# EAGLE library part USB-MINIB (library Pinoccio)
Mini-USB "B" connector with 5th pin broken out. Created new symbol breaking out 5th "ID" pin in mini/micro USB connector spec. See: http://en.wikipedia.org/wiki/Mini_usb#Cables. Uses same footprint as 4-pin symbol. Also added pins to connect to mounting / shield pads if required (probably not generally needed as signals aren't shielded once they leave the connector).
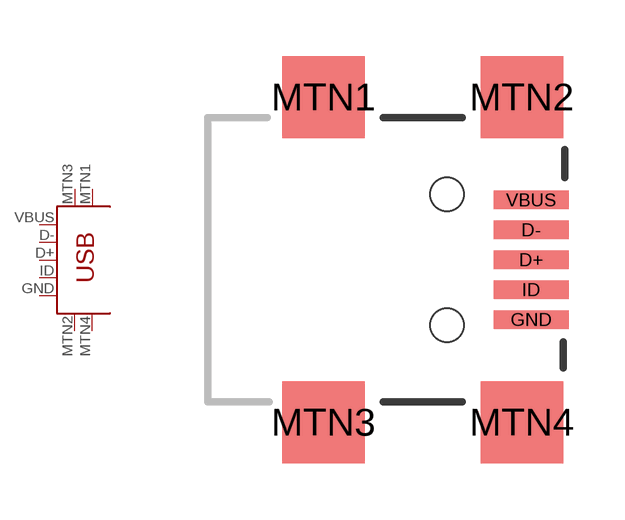
[diagram p1: symbol with the pads of USB-MINIB; footprint USB-MINIB]

Designator prefix -

## USB-MINIB-5PIN  [USB-MINIB]
D+  D+
D-  D-
GND  GND
ID  ID
MTN1  MTN2
MTN2  MTN3
MTN3  MTN1
MTN4  MTN4
VBUS  VBUS

## Footprint USB-MINIB (pad centres in mm)
USB Series Mini-B Surface Mounted
smd 2 x 0.5: D+ 2.25,0; D- 2.25,0.8; GND 2.25,-1.6; ID 2.25,-0.8; VBUS 2.25,1.6
smd 2.2 x 2.2: MTN1 -3.3,4.35; MTN2 2,4.35; MTN3 -3.3,-4.35; MTN4 2,-4.35
hole 0.9 at 0,1.75
hole 0.9 at 0,-1.75